# EAGLE library part CUSTOM_USBC_BRKOUT (library Custom_UBC_BRKOUT)
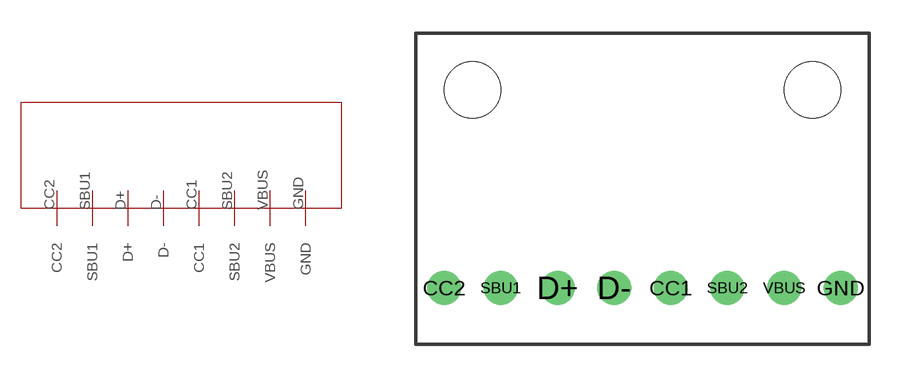
[diagram p0: symbol with the pads of CUSTOM_USBC_BRKOUT; footprint CUSTOM_USBC_BRKOUT]

Designator prefix -

## CUSTOM_USBC_BRKOUT  [CUSTOM_USBC_BRKOUT]
CC1  CC1
CC2  CC2
D+  D+
D-  D-
GND  GND
SBU1  SBU1
SBU2  SBU2
VBUS  VBUS

## Footprint CUSTOM_USBC_BRKOUT (pad centres in mm)
drill 1.016: CC1 11.43,2.54; CC2 1.27,2.54; D+ 6.35,2.54; D- 8.89,2.54; GND 19.05,2.54; SBU1 3.81,2.54; SBU2 13.97,2.54; VBUS 16.51,2.54
hole 2.54 at 2.54,11.43
hole 2.54 at 17.78,11.43